# Altium schematic symbol library Schlib1.SchLib: 11 symbols
Pins are listed as number, name and electrical type; pins without a type are passive.

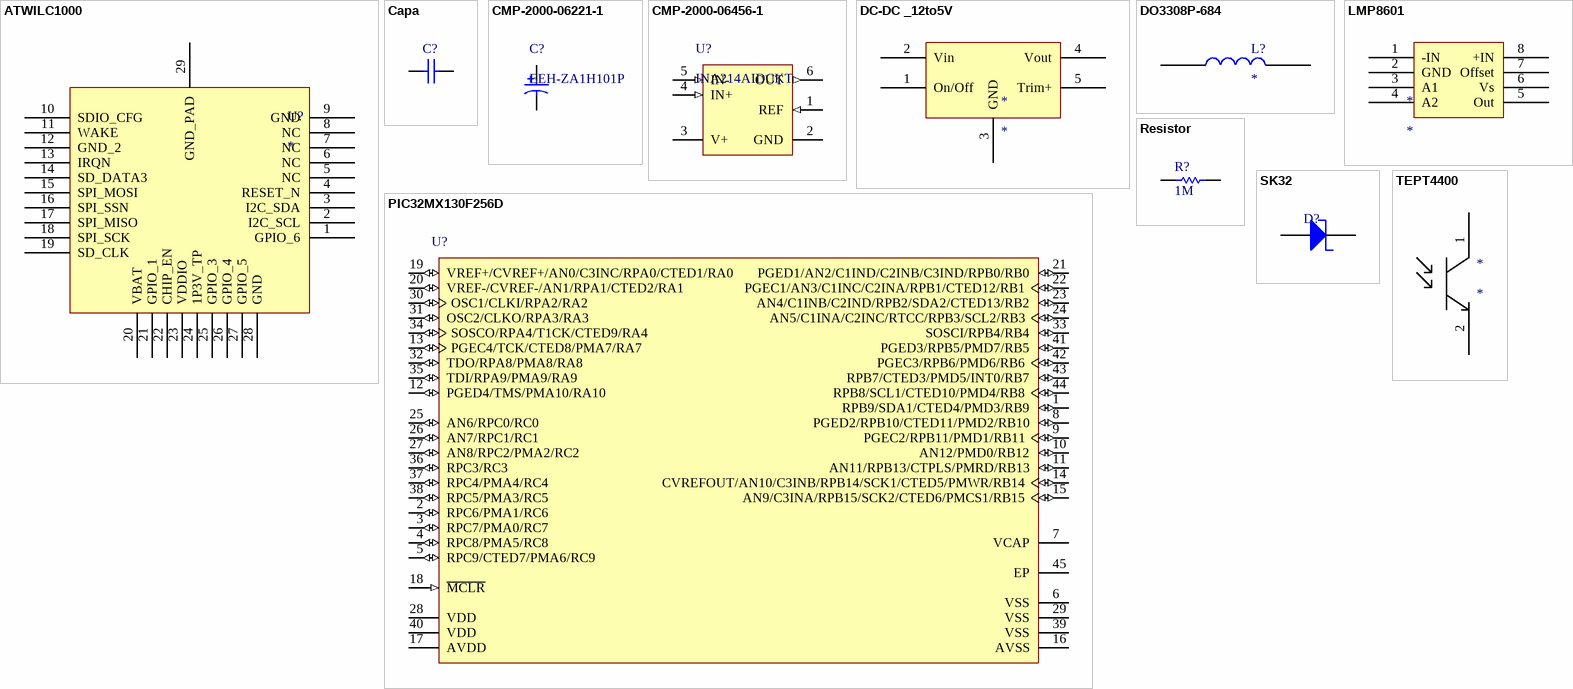
[diagram p0: symbols ATWILC1000 to TEPT4400]

## ATWILC1000
designator U?
footprint ATWILC1000
pins: 1 GPIO_6, 2 I2C_SCL, 3 I2C_SDA, 4 RESET_N, 5 NC, 6 NC, 7 NC, 8 NC, 9 GND, 10 SDIO_CFG, 11 WAKE, 12 GND_2, 13 IRQN, 14 SD_DATA3, 15 SPI_MOSI, 16 SPI_SSN, 17 SPI_MISO, 18 SPI_SCK, 19 SD_CLK, 20 VBAT, 21 GPIO_1, 22 CHIP_EN, 23 VDDIO, 24 1P3V_TP, 25 GPIO_3, 26 GPIO_4, 27 GPIO_5, 28 GND, 29 GND_PAD

## Capa
designator C?
Case-EIA: 0805; Rated Voltage: 10 V; Value: 4.7uF; Tolerance: Â±10%; Case-Metric: 2012; Max Thickness: 1.55 mm; Technology: SMT
footprint CAPC0805(2012)155_L (Chip Capacitor, Body 2.0x1.2mm, Height 1.55mm, IPC High Density)
footprint CAPC0805(2012)155_N (Chip Capacitor, Body 2.0x1.2mm, Height 1.55mm, IPC Medium Density)
footprint CAPC0805(2012)155_M (Chip Capacitor, Body 2.0x1.2mm, Height 1.55mm, IPC Low Density)
pins: 1, 2
1 alternate drawing of the same symbol

## CMP-2000-06221-1
designator C?, comment EEH-ZA1H101P
Conductive Polymer Hybrid Aluminum Electrolytic Capacitor, 100 uF, +/- 20%, 50 V, -55 to 105 degC, 2-Pin SMD (G), RoHS, Tape and Reel; Case Height: 10.5mm; Voltage Rating DC: 50V; Case Diameter: 10mm; Ripple Current: 2A; Load Life: 10000Hour; Brand: Panasonic; Case Length: 10.2mm; ESR: 28mOhms; Capacitance: 100uF; Manufacturer URL: http://www.panasonic.com/; Minimum Operating Temperature: -55C; Datasheet Version: 06/2016; Product Category: AluminumOrganicPolymerCapacitors; Maximum Operating Temperature: +105C; Package Description: 2-Pin Surface Mount Device, Body 10.3 x 10.3 mm; Package Reference: ZA-G; RoHS: Details; Series: ZA; Tolerance: 20%; Product: AluminumElectrolyticCapacitors; Factory Pack Quantity: 500; Manufacturer: Panasonic; Termination Style: SMD/SMT; Datasheet URL: https://industrial.panasonic.com/cdbs/www-data/pdf/RDD0000/DMD0000COL56.pdf; Mounting Technology: SurfaceMount; Packaging: Reel; Height: 10.5mm
footprint Capacitor
pins: 1, 2

## CMP-2000-06456-1
designator U?, comment INA214AIDCKT
Voltage Output, High / Low-Side Measurement, Bi-Directional Zero-Drift Series, Current Shunt Monitor, 2.7 to 26 V, -40 to 125 degC, 6-Pin SOT-23 (DCK6), Green (RoHS & no Sb/Br), Tape and Reel; Package Version: 4093553-4/G, 01/2007; Development Kit: INA210-214EVM; Unit Weight: 0.000088oz; Vcm - Common Mode Voltage: -0.3Vto+26V; Gain V/V: 100V/V; Operating Supply Current: 115uA; Topology: CurrentShuntFeedback; Number of Channels: 1Channel; Accuracy: 1%; Amplifier Type: CurrentSense; Gain Error: 0.02%; Vos - Input Offset Voltage: 60uV; Brand: TexasInstruments; Supply Voltage - Max: 26V; CMRR - Common Mode Rejection Ratio: 105dB; Supply Voltage - Min: 2.7V; GBP - Gain Bandwidth Product: 30kHz; Product Category: CurrentSenseAmplifiers; Series: INA214; Mounting Style: SMD/SMT; Datasheet URL: http://www.ti.com/lit/gpn/INA214?keyMatch=INA214AIDCKT&tisearch=Search-EN-Everything; Maximum Operating Temperature: +125C; Package / Case: SOT-23-6; Minimum Operating Temperature: -40C; Datasheet Version: Rev. G, 07/2014; RoHS: True; Manufacturer URL: http://www.ti.com/; Package Description: 6-Pin Plastic Small Outline, Body 2 x 1.25 mm, Pitch 0.65 mm; Product: CurrentSenseAmplifiers; Package Reference: DCK6; Packaging: Reel; Manufacturer: TexasInstruments; Mounting Technology: SurfaceMount
footprint DCK0006A_N (SOT23, 6-Leads, Body 2.15x1.4mm, Pitch 0.65mm, IPC Medium Density)
pins: 1 REF (in), 2 GND (power), 3 V+ (power), 4 IN+ (in), 5 IN- (in), 6 OUT (out)

## DC-DC _12to5V
designator *
footprint DC-DC
pins: 1 On/Off, 2 Vin, 3 GND, 4 Vout, 5 Trim+

## DO3308P-684
designator L?
footprint DO3308P
pins: 1, 2

## LMP8601
designator *
footprint SOP8
pins: 1 -IN, 2 GND, 3 A1, 4 A2, 5 Out, 6 Vs, 7 Offset, 8 +IN

## PIC32MX130F256D
designator U?
PartNumber: PIC32MX130F064D-I/TL; Manufacturer: Microchip; Mounting Technology: Surface Mount; ComponentLink4Description: Product URL; DatasheetVersion: Rev. E; ComponentLink4URL: http://www.microchip.com/PIC32MX130F064D; PackageVersion: C04-157C; ComponentLink3URL: http://www.microchip.com/stellent/groups/techpub_sg/documents/packagingspec/en012702.pdf; PackageDescription: 44-Lead Terminal Very Thin Leadless Array Package, 6 x 6 mm Body, 0.5 mm Pitch; ComponentLink2URL: http://ww1.microchip.com/downloads/en/DeviceDoc/61168E.pdf; ComponentLink1URL: http://www.microchip.com; PackageReference: VTLA-TL44; ComponentLink2Description: Datasheet; ComponentLink3Description: Package Specification; ComponentLink1Description: Manufacturer URL
footprint QFP80P1200X1200X120-44N
pins: 1 RPB9/SDA1/CTED4/PMD3/RB9 (io), 2 RPC6/PMA1/RC6 (io), 3 RPC7/PMA0/RC7 (io), 4 RPC8/PMA5/RC8 (io), 5 RPC9/CTED7/PMA6/RC9 (io), 6 VSS (power) "Ground reference for analog modules", 7 VCAP "CPU logic filter capacitor connection", 8 PGED2/RPB10/CTED11/PMD2/RB10 (io), 9 PGEC2/RPB11/PMD1/RB11 (io), 10 AN12/PMD0/RB12 (io), 11 AN11/RPB13/CTPLS/PMRD/RB13 (io), 12 PGED4/TMS/PMA10/RA10 (io), 13 PGEC4/TCK/CTED8/PMA7/RA7 (io), 14 CVREFOUT/AN10/C3INB/RPB14/SCK1/CTED5/PMWR/RB14 (io), 15 AN9/C3INA/RPB15/SCK2/CTED6/PMCS1/RB15 (io), 16 AVSS (power) "Ground reference for logic and I/O pins. This pin must be connected at all times.", 17 AVDD (power) "Positive supply for analog modules. This pin must be connected at all times.", 18 ~{MCLR} (in) "Master Clear (Reset) input. This pin is an active-low Reset to the device.", 19 VREF+/CVREF+/AN0/C3INC/RPA0/CTED1/RA0 (io), 20 VREF-/CVREF-/AN1/RPA1/CTED2/RA1 (io), 21 PGED1/AN2/C1IND/C2INB/C3IND/RPB0/RB0 (io), 22 PGEC1/AN3/C1INC/C2INA/RPB1/CTED12/RB1 (io), 23 AN4/C1INB/C2IND/RPB2/SDA2/CTED13/RB2 (io), 24 AN5/C1INA/C2INC/RTCC/RPB3/SCL2/RB3 (io), 25 AN6/RPC0/RC0 (io), 26 AN7/RPC1/RC1 (io), 27 AN8/RPC2/PMA2/RC2 (io), 28 VDD (power) "Positive supply for peripheral logic and I/O pins", 29 VSS (power) "Ground reference for analog modules", 30 OSC1/CLKI/RPA2/RA2 (io), 31 OSC2/CLKO/RPA3/RA3 (io), 32 TDO/RPA8/PMA8/RA8 (io), 33 SOSCI/RPB4/RB4 (io), 34 SOSCO/RPA4/T1CK/CTED9/RA4 (io), 35 TDI/RPA9/PMA9/RA9 (io), 36 RPC3/RC3 (io), 37 RPC4/PMA4/RC4 (io), 38 RPC5/PMA3/RC5 (io), 39 VSS (power) "Ground reference for analog modules", 40 VDD (power) "Positive supply for peripheral logic and I/O pins", 41 PGED3/RPB5/PMD7/RB5 (io), 42 PGEC3/RPB6/PMD6/RB6 (io), 43 RPB7/CTED3/PMD5/INT0/RB7 (io), 44 RPB8/SCL1/CTED10/PMD4/RB8 (io), 45 EP (power) "The metal plane at the bottom of the device is not connected to any pins and is recommended to be connected to VSS externally"

## Resistor
designator R?, comment 1M
Value: 1000000.00 Ohm; Case-Metric: 2012; Case-EIA: 0805; Power: 0.125 W; Tolerance: 1 %; Technology: SMT
footprint RESC0805(2012)_N (Chip Resistor, Body 2.0x1.3mm, IPC Medium Density)
footprint RESC0805(2012)_L (Chip Resistor, Body 2.0x1.3mm, IPC High Density)
footprint RESC0805(2012)_M (Chip Resistor, Body 2.0x1.3mm, IPC Low Density)
pins: 1, 2
1 alternate drawing of the same symbol

## SK32
designator D?
Shotky diod; PartNumber: 151031SS04000; Manufacturer: Wuerth Elektronik; Emitting color: Super Red; ComponentLink2Description: Datasheet; ComponentLink1URL: http://www.we-online.com; ComponentLink1Description: Manufacturer URL; PackageReference: Type 3mm; ComponentLink2URL: http://katalog.we-online.de/pbs/datasheet/7448042001.pdfhttp://katalog.we-online.de/pbs/datasheet/7448042001.pdfhttp://katalog.we-online.de/pbs/datasheet/7448042001.pdfhttp://katalog.we-online.de/pbs/datasheet/151031SS04000.pdf
footprint DO-214AC
pins: 1 K, 2 A

## TEPT4400
designator *
footprint Type 3mm (THT, LED-3mm, 2pin- Body 4.15mm(max))
pins: 1, 2